# EAGLE library part LTC1440 (library sc_usercreated)
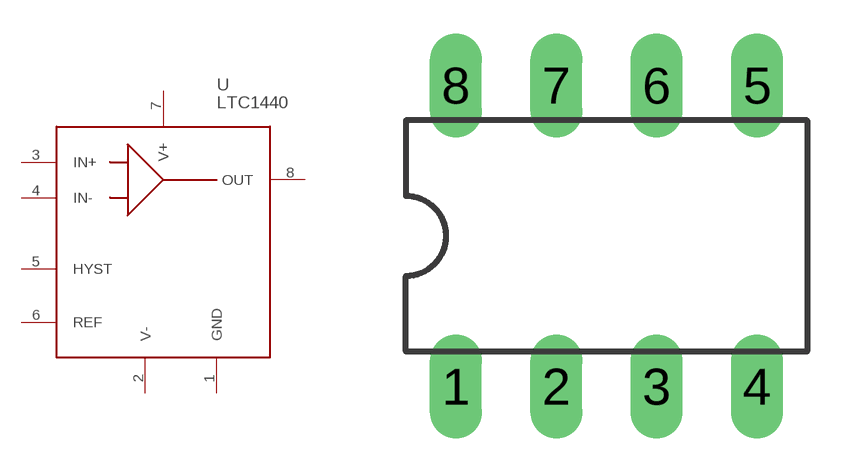
[diagram p11: symbol with the pads of 8DIP; footprint 8DIP]

Designator prefix U

## LTC1440  [8DIP]
1  GND
2  V-
3  IN+
4  IN-
5  HYST
6  REF
7  V+
8  OUT

## Footprint 8DIP (pad centres in mm)
drill 0.813 long: 1 -3.81,-3.81; 2 -1.27,-3.81; 3 1.27,-3.81; 4 3.81,-3.81; 5 3.81,3.81; 6 1.27,3.81; 7 -1.27,3.81; 8 -3.81,3.81